# EAGLE library part 1734037-4 (library Connectors)
PCB Mount Receptacle, Right Angle, Board-to-Board, 40 Position, 1.27 mm [.05 in] Centerline, Gold Flash, Through Hole - Solder, CHAMP .050 Series I
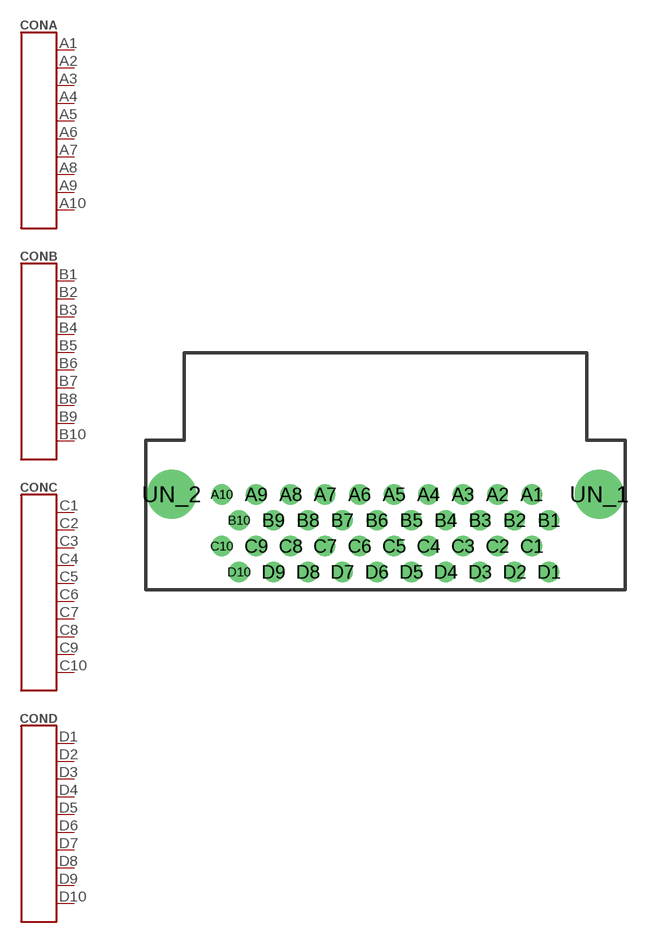
[diagram p35: symbol with the pads of 1734037-4; footprint 1734037-4]

Designator prefix CON; gates A=CON-10P B=CON-10P C=CON-10P D=CON-10P

## 1734037-4 (ALT: L-KLS1-SCSI-10-40FLS; MANF: TE connectivity; MANF#: 1734037-4)  [1734037-4]
A1  A:1
A2  A:2
A3  A:3
A4  A:4
A5  A:5
A6  A:6
A7  A:7
A8  A:8
A9  A:9
A10  A:10
B1  B:1
B2  B:2
B3  B:3
B4  B:4
B5  B:5
B6  B:6
B7  B:7
B8  B:8
B9  B:9
B10  B:10
C1  C:1
C2  C:2
C3  C:3
C4  C:4
C5  C:5
C6  C:6
C7  C:7
C8  C:8
C9  C:9
C10  C:10
D1  D:1
D2  D:2
D3  D:3
D4  D:4
D5  D:5
D6  D:6
D7  D:7
D8  D:8
D9  D:9
D10  D:10

## Footprint 1734037-4 (pad centres in mm)
3D model <https://www.te.com/de/product-1734037-4.html>
drill 1 pad 1.5: A1 10.79,7.025; A2 8.25,7.025; A3 5.71,7.025; A4 3.17,7.025; A5 0.63,7.025; A6 -1.91,7.025; A7 -4.45,7.025; A8 -6.99,7.025; A9 -9.53,7.025; A10 -12.07,7.025; B1 12.06,5.12; B2 9.52,5.12; B3 6.98,5.12; B4 4.44,5.12; B5 1.9,5.12; B6 -0.64,5.12; B7 -3.18,5.12; B8 -5.72,5.12; B9 -8.26,5.12; B10 -10.8,5.12; C1 10.79,3.215; C2 8.25,3.215; C3 5.71,3.215; C4 3.17,3.215; C5 0.63,3.215; C6 -1.91,3.215; C7 -4.45,3.215; C8 -6.99,3.215; C9 -9.53,3.215; C10 -12.07,3.215; D1 12.06,1.31; D2 9.52,1.31; D3 6.98,1.31; D4 4.44,1.31; D5 1.9,1.31; D6 -0.64,1.31; D7 -3.18,1.31; D8 -5.72,1.31; D9 -8.26,1.31; D10 -10.8,1.31
drill 2.6 pad 3.5: UN_1 15.765,7.025; UN_2 -15.765,7.025